# EAGLE library part SN76477NOISEGENERATOR (library SN74677-Library)
The SN76477 is a complex sound generator in the form of a monolithic chip. It rocks. Loved Space Invaders? well then you've had the pleasure of listening to the SN76477. The SN76477 generates complex audio signal waveforms by combining the outputs of a low frequency oscillator, variable frequency (voltage controlled) oscillator (VCO) and noise source, modulating the resulting composite signal with a selected envelope and, finally, adjusting the signal's attack and decay periods. At each stage, the process can be controlled at the programming inputs of the signal modification and generation circuits, using control voltages, logic levels, or different resistor and capacitor values. SN76477 PIN FUNCTIONS AND COMPONENT VALUES Make Magazine <https://makezine.com/projects/space-invaders-synthesizer/> kindly made this list, thank you! 1. Logic input. Applies a sound envelope in conjunction with pin 28. 2. Negative ground. 3. External clock input for noise generator (optional). Maximum 10V. 4. Closing the switch enables the internal noise clock. The 47K resistor may be increased up to 100K to get a lower-frequency noise. 5. Low-pass noise filter adjustment. 6. Low-pass noise filter range. 7. Decay activation switch and adjustment. Determines the discharge time of the attack/decay range capacitor applied to pin 8. Open switch causes instant-off (no decay time). 8. Attack/decay range. 9. Logic input. Logic high inhibits sound output, logic low (or open switch) enables sound, and high-low transition with the pushbutton triggers the one-shot function. If the input goes high during a sound, the sound will be interrupted. Envelope selection pin 1 must be high and pin 28 must be low for the one-shot to work. 10. Attack activation switch and adjustment. Determines the charge time of the attack/decay range capacitor applied to pin 8. Open switch causes instant-on (no attack time). 11. Audio output level. 12. Feedback from amplifier output. 13. Amplifier output to base of transistor. 14. 9VDC power input. Also supplies collector of transistor. 15. 5VDC power input if pin 14 is unconnected, or 5VDC power output if 9VDC is applied to pin 14. 16. External VCO input, or internal VCO adjustment. Maximum range of external source: 0V to 2.35V. Exceeding this range saturates the audio output and causes distortion. 17. VCO range. 18. VCO activation switch and adjustment. 19. Pitch adjustment via pulse-width modulation of the VCO output. Leaving the switch open gives a 50% duty cycle of the VCO. 20. Super-low-frequency oscillator activation switch and adjustment. 21. Super-low-frequency oscillator range. 22. Logic input. Logic high controls VCO with internal capacitors, logic low selects external control with pin 16. 23. One-shot duration range. 24. One-shot duration adjustment. 25. Logic input. Logic high selects Mixer B. 26. Logic input. Logic high selects Mixer A. 27. Logic input. Logic high selects Mixer C. 28. Logic input. Applies a sound envelope in conjunction with pin 1. The mixing of sound sources is controlled by the logic states of pins 25, 26, and 27. After setting an envelope for your sound (i.e. attack, sustain, and decay) you decide how to apply it by setting logic states of pins 1 and 28. Have fun and make music.
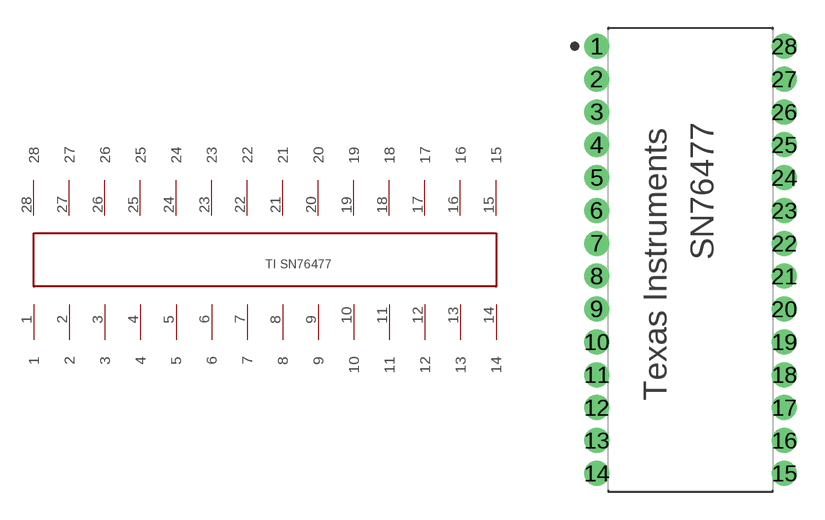
[diagram p0: symbol with the pads of SN76477NOISEGENERATOR; footprint SN76477NOISEGENERATOR]

Designator prefix -

## SN76477NOISEGENERATORSN76477  [SN76477NOISEGENERATOR]
1  1
2  2
3  3
4  4
5  5
6  6
7  7
8  8
9  9
10  10
11  11
12  12
13  13
14  14
15  15
16  16
17  17
18  18
19  19
20  20
21  21
22  22
23  23
24  24
25  25
26  26
27  27
28  28

## Footprint SN76477NOISEGENERATOR (pad centres in mm)
28-DIP, 1.78 mm (0.07 in) pitch, 10.16 mm (0.40 in) span, 25.15 X 8.89 X 5.08 mm body 28-pin DIP package with 1.78 mm (0.07 in) pitch, 10.16 mm (0.40 in) span with body size 25.15 X 8.89 X 5.08 mm
drill 0.753 pad 1.353: 1 -5.08,11.57; 2 -5.08,9.79; 3 -5.08,8.01; 4 -5.08,6.23; 5 -5.08,4.45; 6 -5.08,2.67; 7 -5.08,0.89; 8 -5.08,-0.89; 9 -5.08,-2.67; 10 -5.08,-4.45; 11 -5.08,-6.23; 12 -5.08,-8.01; 13 -5.08,-9.79; 14 -5.08,-11.57; 15 5.08,-11.57; 16 5.08,-9.79; 17 5.08,-8.01; 18 5.08,-6.23; 19 5.08,-4.45; 20 5.08,-2.67; 21 5.08,-0.89; 22 5.08,0.89; 23 5.08,2.67; 24 5.08,4.45; 25 5.08,6.23; 26 5.08,8.01; 27 5.08,9.79; 28 5.08,11.57